# EAGLE library part SRV05-4.TCT (library chip)
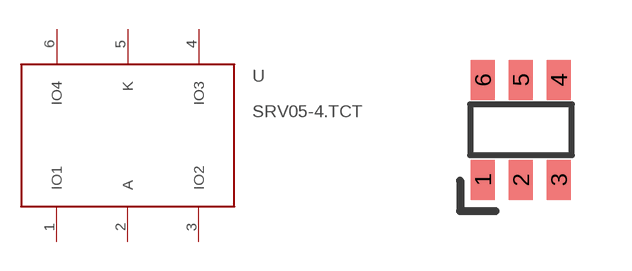
[diagram p6: symbol with the pads of SOT-23-6; footprint SOT-23-6]

Designator prefix U

## SRV05-4.TCT  [SOT-23-6]
1  IO1
2  A
3  IO2
4  IO3
5  K
6  IO4

## Footprint SOT-23-6 (pad centres in mm)
smd 0.6 x 1: 1 -0.95,-1.25; 2 0,-1.25; 3 0.95,-1.25; 4 0.95,1.25; 5 0,1.25; 6 -0.95,1.25